# Altium integrated library Linear Technology Comparators.IntLib: 630 symbols (part 3 of 24)
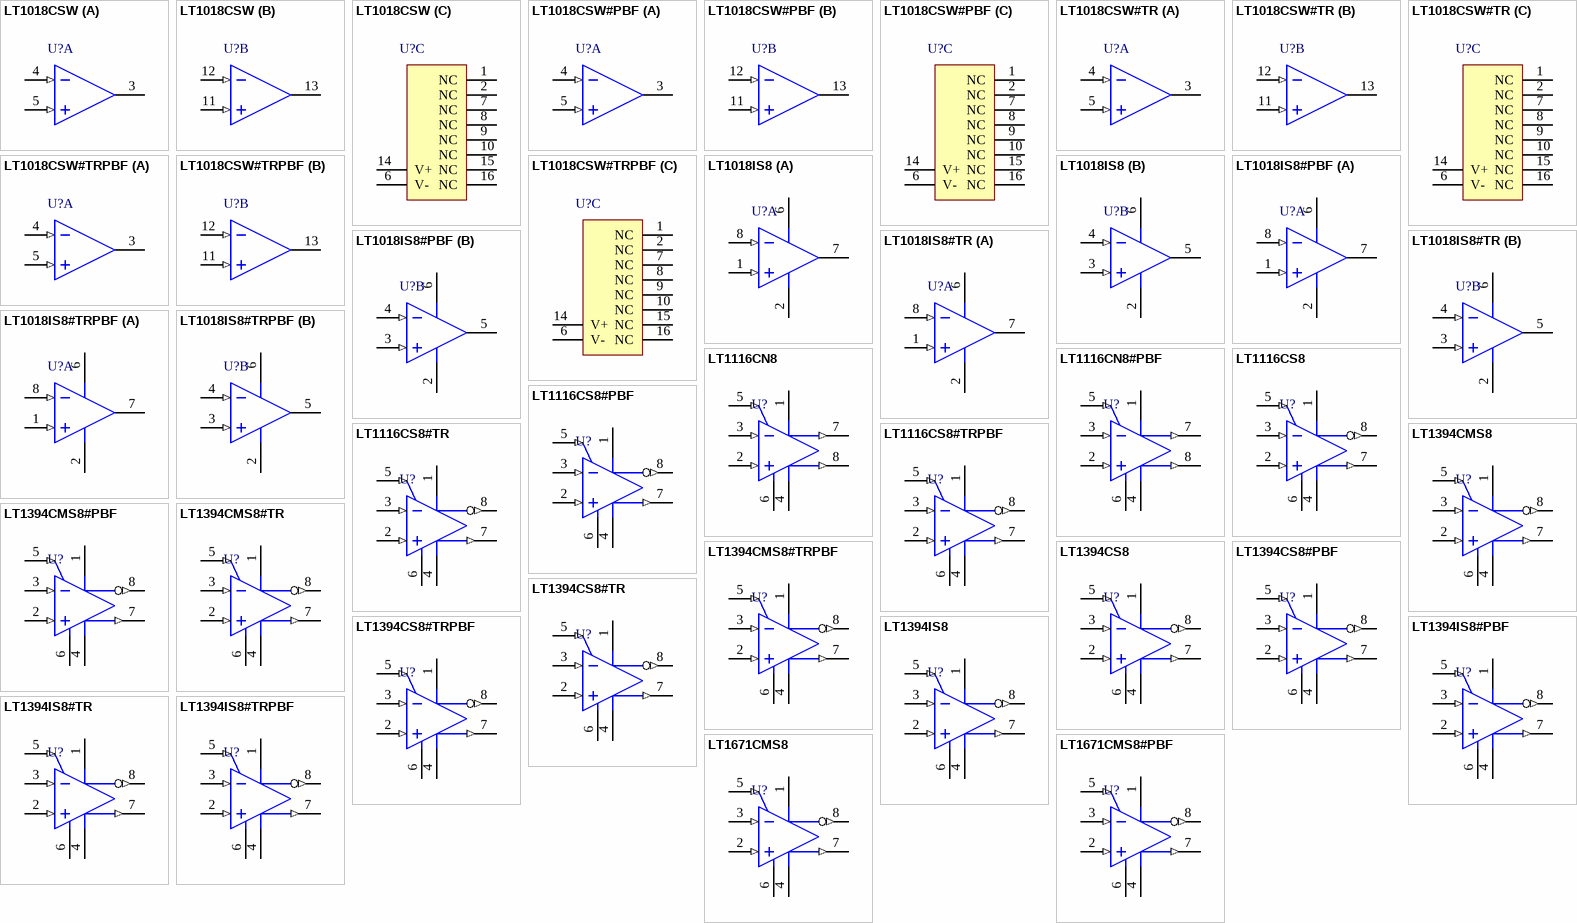
[diagram p26: symbols LT1018CSW to LT1671CMS8#PBF]

## LT1394CS8
designator U?
7 ns, Low Power, Single Supply, Ground-Sensing Comparator, 1 Channel, 4.5 to + / - 5 V, 0 to +70 degC, 8-pin SOP (S8); Generic Part Number: LT1394; Manufacturer: Linear Technology; PartNumber: LT1394CS8; Channels (#): 1; Prop Delay (us): 0.007; Supply Current (uA) Typical: 8500; Vos (mV) Guaranteed: 2.5; Vos (mV) Typical: 0.8; Vs Max (V): 10; Vs Min (V): 4.5; PackageReference: S8; PackageDescription: 8-Pin Plastic Small Outline (Narrow .150 Inch), Body 4.9 x 3.9 mm, Pitch 1.27 mm; Supplier 1: Digi-Key; Supplier Part Number 1: LT1394CS8-ND; Features: Comparator, Output Latch; RoHS: N; Supply Voltage Range: 4.5 to + / -5 V; Mounting Technology: Surface Mount; ComponentLink1Description: Manufacturer URL; ComponentLink1URL: http://www.linear.com/; ComponentLink2Description: Datasheet; ComponentLink2URL: http://cds.linear.com/docs/en/datasheet/1394f.pdf; ComponentLink3Description: Package Specification; ComponentLink3URL: http://cds.linear.com/docs/en/packaging/05081610_G_SO8.pdf
footprint LT-S8_N (SOP, 8-Leads, Body 4.9x3.9mm, Pitch 1.27mm, IPC Medium Density)
footprint LT-S8_L (SOP, 8-Leads, Body 4.9x3.9mm, Pitch 1.27mm, IPC High Density)
footprint LT-S8_M (SOP, 8-Leads, Body 4.9x3.9mm, Pitch 1.27mm, IPC Low Density)
pins: 1 V+ (power), 2 +IN (in), 3 -IN (in), 4 V- (power), 5 LATCHENABLE (in), 6 GND (power), 7 QOUT (out), 8 ~{Q}OUT (out)

## LT1394CS8#PBF
designator U?
7 ns, Low Power, Single Supply, Ground-Sensing Comparator, 1 Channel, 4.5 to + / - 5 V, 0 to +70 degC, 8-pin SOP (S8); Generic Part Number: LT1394; Manufacturer: Linear Technology; PartNumber: LT1394CS8#PBF; Channels (#): 1; Prop Delay (us): 0.007; Supply Current (uA) Typical: 8500; Vos (mV) Guaranteed: 2.5; Vos (mV) Typical: 0.8; Vs Max (V): 10; Vs Min (V): 4.5; PackageReference: S8; PackageDescription: 8-Pin Plastic Small Outline (Narrow .150 Inch), Body 4.9 x 3.9 mm, Pitch 1.27 mm; Supplier 1: Digi-Key; Supplier Part Number 1: LT1394CS8#PBF-ND; Supplier 2: Farnell; Supplier Part Number 2: 1663420; Supplier 3: Newark; Supplier Part Number 3: 57M3861; Features: Comparator, Output Latch; RoHS: Y; Supply Voltage Range: 4.5 to + / -5 V; Mounting Technology: Surface Mount; ComponentLink1Description: Manufacturer URL; ComponentLink1URL: http://www.linear.com/; ComponentLink2Description: Datasheet; ComponentLink2URL: http://cds.linear.com/docs/en/datasheet/1394f.pdf; ComponentLink3Description: Package Specification; ComponentLink3URL: http://cds.linear.com/docs/en/packaging/05081610_G_SO8.pdf
footprint LT-S8_N (SOP, 8-Leads, Body 4.9x3.9mm, Pitch 1.27mm, IPC Medium Density)
footprint LT-S8_L (SOP, 8-Leads, Body 4.9x3.9mm, Pitch 1.27mm, IPC High Density)
footprint LT-S8_M (SOP, 8-Leads, Body 4.9x3.9mm, Pitch 1.27mm, IPC Low Density)
pins: 1 V+ (power), 2 +IN (in), 3 -IN (in), 4 V- (power), 5 LATCHENABLE (in), 6 GND (power), 7 QOUT (out), 8 ~{Q}OUT (out)

## LT1394CS8#TR
designator U?
7 ns, Low Power, Single Supply, Ground-Sensing Comparator, 1 Channel, 4.5 to + / - 5 V, 0 to +70 degC, 8-pin SOP (S8), Tape and Reel; Generic Part Number: LT1394; Manufacturer: Linear Technology; PartNumber: LT1394CS8#TR; Channels (#): 1; Prop Delay (us): 0.007; Supply Current (uA) Typical: 8500; Vos (mV) Guaranteed: 2.5; Vos (mV) Typical: 0.8; Vs Max (V): 10; Vs Min (V): 4.5; PackageReference: S8; PackageDescription: 8-Pin Plastic Small Outline (Narrow .150 Inch), Body 4.9 x 3.9 mm, Pitch 1.27 mm; Supplier 1: Digi-Key; Supplier Part Number 1: LT1394CS8#TR-ND; Features: Comparator, Output Latch; RoHS: N; Supply Voltage Range: 4.5 to + / -5 V; Mounting Technology: Surface Mount; ComponentLink1Description: Manufacturer URL; ComponentLink1URL: http://www.linear.com/; ComponentLink2Description: Datasheet; ComponentLink2URL: http://cds.linear.com/docs/en/datasheet/1394f.pdf; ComponentLink3Description: Package Specification; ComponentLink3URL: http://cds.linear.com/docs/en/packaging/05081610_G_SO8.pdf
footprint LT-S8_N (SOP, 8-Leads, Body 4.9x3.9mm, Pitch 1.27mm, IPC Medium Density)
footprint LT-S8_L (SOP, 8-Leads, Body 4.9x3.9mm, Pitch 1.27mm, IPC High Density)
footprint LT-S8_M (SOP, 8-Leads, Body 4.9x3.9mm, Pitch 1.27mm, IPC Low Density)
pins: 1 V+ (power), 2 +IN (in), 3 -IN (in), 4 V- (power), 5 LATCHENABLE (in), 6 GND (power), 7 QOUT (out), 8 ~{Q}OUT (out)

## LT1394CS8#TRPBF
designator U?
7 ns, Low Power, Single Supply, Ground-Sensing Comparator, 1 Channel, 4.5 to + / - 5 V, 0 to +70 degC, 8-pin SOP (S8), Tape and Reel; Generic Part Number: LT1394; Manufacturer: Linear Technology; PartNumber: LT1394CS8#TRPBF; Channels (#): 1; Prop Delay (us): 0.007; Supply Current (uA) Typical: 8500; Vos (mV) Guaranteed: 2.5; Vos (mV) Typical: 0.8; Vs Max (V): 10; Vs Min (V): 4.5; PackageReference: S8; PackageDescription: 8-Pin Plastic Small Outline (Narrow .150 Inch), Body 4.9 x 3.9 mm, Pitch 1.27 mm; Supplier 1: Digi-Key; Supplier Part Number 1: LT1394CS8#TRPBF-ND; Features: Comparator, Output Latch; RoHS: Y; Supply Voltage Range: 4.5 to + / -5 V; Mounting Technology: Surface Mount; ComponentLink1Description: Manufacturer URL; ComponentLink1URL: http://www.linear.com/; ComponentLink2Description: Datasheet; ComponentLink2URL: http://cds.linear.com/docs/en/datasheet/1394f.pdf; ComponentLink3Description: Package Specification; ComponentLink3URL: http://cds.linear.com/docs/en/packaging/05081610_G_SO8.pdf
footprint LT-S8_N (SOP, 8-Leads, Body 4.9x3.9mm, Pitch 1.27mm, IPC Medium Density)
footprint LT-S8_L (SOP, 8-Leads, Body 4.9x3.9mm, Pitch 1.27mm, IPC High Density)
footprint LT-S8_M (SOP, 8-Leads, Body 4.9x3.9mm, Pitch 1.27mm, IPC Low Density)
pins: 1 V+ (power), 2 +IN (in), 3 -IN (in), 4 V- (power), 5 LATCHENABLE (in), 6 GND (power), 7 QOUT (out), 8 ~{Q}OUT (out)

## LT1394IS8
designator U?
7 ns, Low Power, Single Supply, Ground-Sensing Comparator, 1 Channel, 4.5 to + / -5 V, -40 to +85 degC, 8-pin SOP (S8); Generic Part Number: LT1394; Manufacturer: Linear Technology; PartNumber: LT1394IS8; Channels (#): 1; Prop Delay (us): 0.007; Supply Current (uA) Typical: 8500; Vos (mV) Guaranteed: 2.5; Vos (mV) Typical: 0.8; Vs Max (V): 10; Vs Min (V): 4.5; PackageReference: S8; PackageDescription: 8-Pin Plastic Small Outline (Narrow .150 Inch), Body 4.9 x 3.9 mm, Pitch 1.27 mm; Supplier 1: Digi-Key; Supplier Part Number 1: LT1394IS8-ND; Features: Comparator, Output Latch; RoHS: N; Supply Voltage Range: 4.5 to + / -5 V; Mounting Technology: Surface Mount; ComponentLink1Description: Manufacturer URL; ComponentLink1URL: http://www.linear.com/; ComponentLink2Description: Datasheet; ComponentLink2URL: http://cds.linear.com/docs/en/datasheet/1394f.pdf; ComponentLink3Description: Package Specification; ComponentLink3URL: http://cds.linear.com/docs/en/packaging/05081610_G_SO8.pdf
footprint LT-S8_N (SOP, 8-Leads, Body 4.9x3.9mm, Pitch 1.27mm, IPC Medium Density)
footprint LT-S8_L (SOP, 8-Leads, Body 4.9x3.9mm, Pitch 1.27mm, IPC High Density)
footprint LT-S8_M (SOP, 8-Leads, Body 4.9x3.9mm, Pitch 1.27mm, IPC Low Density)
pins: 1 V+ (power), 2 +IN (in), 3 -IN (in), 4 V- (power), 5 LATCHENABLE (in), 6 GND (power), 7 QOUT (out), 8 ~{Q}OUT (out)

## LT1394IS8#PBF
designator U?
7 ns, Low Power, Ground-Sensing Comparator, 1 Channel, 4.5 to + / -5 V, -40 to +85 degC, 8-pin SOP (S8); Generic Part Number: LT1394; Manufacturer: Linear Technology; PartNumber: LT1394IS8#PBF; Channels (#): 1; Prop Delay (us): 0.007; Supply Current (uA) Typical: 8500; Vos (mV) Guaranteed: 2.5; Vos (mV) Typical: 0.8; Vs Max (V): 10; Vs Min (V): 4.5; PackageReference: S8; PackageDescription: 8-Pin Plastic Small Outline (Narrow .150 Inch), Body 4.9 x 3.9 mm, Pitch 1.27 mm; Supplier 1: Digi-Key; Supplier Part Number 1: LT1394IS8#PBF-ND; Supplier 2: Farnell; Supplier Part Number 2: 1627528; Supplier 3: Newark; Supplier Part Number 3: 57M3865; Features: Comparator, Output Latch; RoHS: Y; Supply Voltage Range: 4.5 to + / -5 V; Mounting Technology: Surface Mount; ComponentLink1Description: Manufacturer URL; ComponentLink1URL: http://www.linear.com/; ComponentLink2Description: Datasheet; ComponentLink2URL: http://cds.linear.com/docs/en/datasheet/1394f.pdf; ComponentLink3Description: Package Specification; ComponentLink3URL: http://cds.linear.com/docs/en/packaging/05081610_G_SO8.pdf
footprint LT-S8_N (SOP, 8-Leads, Body 4.9x3.9mm, Pitch 1.27mm, IPC Medium Density)
footprint LT-S8_L (SOP, 8-Leads, Body 4.9x3.9mm, Pitch 1.27mm, IPC High Density)
footprint LT-S8_M (SOP, 8-Leads, Body 4.9x3.9mm, Pitch 1.27mm, IPC Low Density)
pins: 1 V+ (power), 2 +IN (in), 3 -IN (in), 4 V- (power), 5 LATCHENABLE (in), 6 GND (power), 7 QOUT (out), 8 ~{Q}OUT (out)

## LT1394IS8#TR
designator U?
7 ns, Low Power, Ground-Sensing Comparator, 1 Channel, 4.5 to + / -5 V, -40 to +85 degC, 8-pin SOP (S8), Tape and Reel; Generic Part Number: LT1394; Manufacturer: Linear Technology; PartNumber: LT1394IS8#TR; Channels (#): 1; Prop Delay (us): 0.007; Supply Current (uA) Typical: 8500; Vos (mV) Guaranteed: 2.5; Vos (mV) Typical: 0.8; Vs Max (V): 10; Vs Min (V): 4.5; PackageReference: S8; PackageDescription: 8-Pin Plastic Small Outline (Narrow .150 Inch), Body 4.9 x 3.9 mm, Pitch 1.27 mm; Supplier 1: Digi-Key; Supplier Part Number 1: LT1394IS8#TR-ND; Features: Comparator, Output Latch; RoHS: N; Supply Voltage Range: 4.5 to + / -5 V; Mounting Technology: Surface Mount; ComponentLink1Description: Manufacturer URL; ComponentLink1URL: http://www.linear.com/; ComponentLink2Description: Datasheet; ComponentLink2URL: http://cds.linear.com/docs/en/datasheet/1394f.pdf; ComponentLink3Description: Package Specification; ComponentLink3URL: http://cds.linear.com/docs/en/packaging/05081610_G_SO8.pdf
footprint LT-S8_N (SOP, 8-Leads, Body 4.9x3.9mm, Pitch 1.27mm, IPC Medium Density)
footprint LT-S8_L (SOP, 8-Leads, Body 4.9x3.9mm, Pitch 1.27mm, IPC High Density)
footprint LT-S8_M (SOP, 8-Leads, Body 4.9x3.9mm, Pitch 1.27mm, IPC Low Density)
pins: 1 V+ (power), 2 +IN (in), 3 -IN (in), 4 V- (power), 5 LATCHENABLE (in), 6 GND (power), 7 QOUT (out), 8 ~{Q}OUT (out)

## LT1394IS8#TRPBF
designator U?
7 ns, Low Power, Ground-Sensing Comparator, 1 Channel, 4.5 to + / -5 V, -40 to +85 degC, 8-pin SOP (S8), Tape and Reel; Generic Part Number: LT1394; Manufacturer: Linear Technology; PartNumber: LT1394IS8#TRPBF; Channels (#): 1; Prop Delay (us): 0.007; Supply Current (uA) Typical: 8500; Vos (mV) Guaranteed: 2.5; Vos (mV) Typical: 0.8; Vs Max (V): 10; Vs Min (V): 4.5; PackageReference: S8; PackageDescription: 8-Pin Plastic Small Outline (Narrow .150 Inch), Body 4.9 x 3.9 mm, Pitch 1.27 mm; Supplier 1: Digi-Key; Supplier Part Number 1: LT1394IS8#TRPBF-ND; Features: Comparator, Output Latch; RoHS: Y; Supply Voltage Range: 4.5 to + / -5 V; Mounting Technology: Surface Mount; ComponentLink1Description: Manufacturer URL; ComponentLink1URL: http://www.linear.com/; ComponentLink2Description: Datasheet; ComponentLink2URL: http://cds.linear.com/docs/en/datasheet/1394f.pdf; ComponentLink3Description: Package Specification; ComponentLink3URL: http://cds.linear.com/docs/en/packaging/05081610_G_SO8.pdf
footprint LT-S8_N (SOP, 8-Leads, Body 4.9x3.9mm, Pitch 1.27mm, IPC Medium Density)
footprint LT-S8_L (SOP, 8-Leads, Body 4.9x3.9mm, Pitch 1.27mm, IPC High Density)
footprint LT-S8_M (SOP, 8-Leads, Body 4.9x3.9mm, Pitch 1.27mm, IPC Low Density)
pins: 1 V+ (power), 2 +IN (in), 3 -IN (in), 4 V- (power), 5 LATCHENABLE (in), 6 GND (power), 7 QOUT (out), 8 ~{Q}OUT (out)

## LT1671CMS8
designator U?
60 ns, Low Power, Single Supply, Ground-Sensing Comparator, 1 Channel, 4.5 to + / - 5 V, 0 to +70 degC, 8-pin Plastic MSOP (MS8); Generic Part Number: LT1671; Manufacturer: Linear Technology; PartNumber: LT1671CMS8; Channels (#): 1; Prop Delay (us): 0.06; Supply Current (uA) Typical: 800; Vos (mV) Guaranteed: 2.5; Vos (mV) Typical: 0.8; Vs Max (V): 10; Vs Min (V): 4.5; PackageReference: MS8; PackageDescription: 8-Pin Plastic MSOP, Body 3 x 3 mm, Pitch 0.65 mm; Supplier 1: Digi-Key; Supplier Part Number 1: LT1671CMS8-ND; Features: Comparator, Output Latch; RoHS: N; Supply Voltage Range: 4.5 to + / -5 V; Mounting Technology: Surface Mount; ComponentLink1Description: Manufacturer URL; ComponentLink1URL: http://www.linear.com/; ComponentLink2Description: Datasheet; ComponentLink2URL: http://cds.linear.com/docs/en/datasheet/1671fs.pdf; ComponentLink3Description: Package Specification; ComponentLink3URL: http://cds.linear.com/docs/en/packaging/MSOP_8_05-08-1660.pdf
footprint LT-MS8_N (SOP, 8-Leads, Body 3x3mm, Pitch 0.65mm, IPC Medium Density)
footprint LT-MS8_L (SOP, 8-Leads, Body 3x3mm, Pitch 0.65mm, IPC High Density)
footprint LT-MS8_M (SOP, 8-Leads, Body 3x3mm, Pitch 0.65mm, IPC Low Density)
pins: 1 V+ (power), 2 +IN (in), 3 -IN (in), 4 V- (power), 5 LATCHENABLE (in), 6 GND (power), 7 QOUT (out), 8 ~{Q}OUT (out)

## LT1671CMS8#PBF
designator U?
60 ns, Low Power, Single Supply, Ground-Sensing Comparator, 1 Channel, 4.5 to + / - 5 V, 0 to +70 degC, 8-pin Plastic MSOP (MS8); Generic Part Number: LT1671; Manufacturer: Linear Technology; PartNumber: LT1671CMS8#PBF; Channels (#): 1; Prop Delay (us): 0.06; Supply Current (uA) Typical: 800; Vos (mV) Guaranteed: 2.5; Vos (mV) Typical: 0.8; Vs Max (V): 10; Vs Min (V): 4.5; PackageReference: MS8; PackageDescription: 8-Pin Plastic MSOP, Body 3 x 3 mm, Pitch 0.65 mm; Supplier 1: Digi-Key; Supplier Part Number 1: LT1671CMS8#PBF-ND; Supplier 2: Newark; Supplier Part Number 2: 57M5603; Features: Comparator, Output Latch; RoHS: Y; Supply Voltage Range: 4.5 to + / -5 V; Mounting Technology: Surface Mount; ComponentLink1Description: Manufacturer URL; ComponentLink1URL: http://www.linear.com/; ComponentLink2Description: Datasheet; ComponentLink2URL: http://cds.linear.com/docs/en/datasheet/1671fs.pdf; ComponentLink3Description: Package Specification; ComponentLink3URL: http://cds.linear.com/docs/en/packaging/MSOP_8_05-08-1660.pdf
footprint LT-MS8_N (SOP, 8-Leads, Body 3x3mm, Pitch 0.65mm, IPC Medium Density)
footprint LT-MS8_L (SOP, 8-Leads, Body 3x3mm, Pitch 0.65mm, IPC High Density)
footprint LT-MS8_M (SOP, 8-Leads, Body 3x3mm, Pitch 0.65mm, IPC Low Density)
pins: 1 V+ (power), 2 +IN (in), 3 -IN (in), 4 V- (power), 5 LATCHENABLE (in), 6 GND (power), 7 QOUT (out), 8 ~{Q}OUT (out)

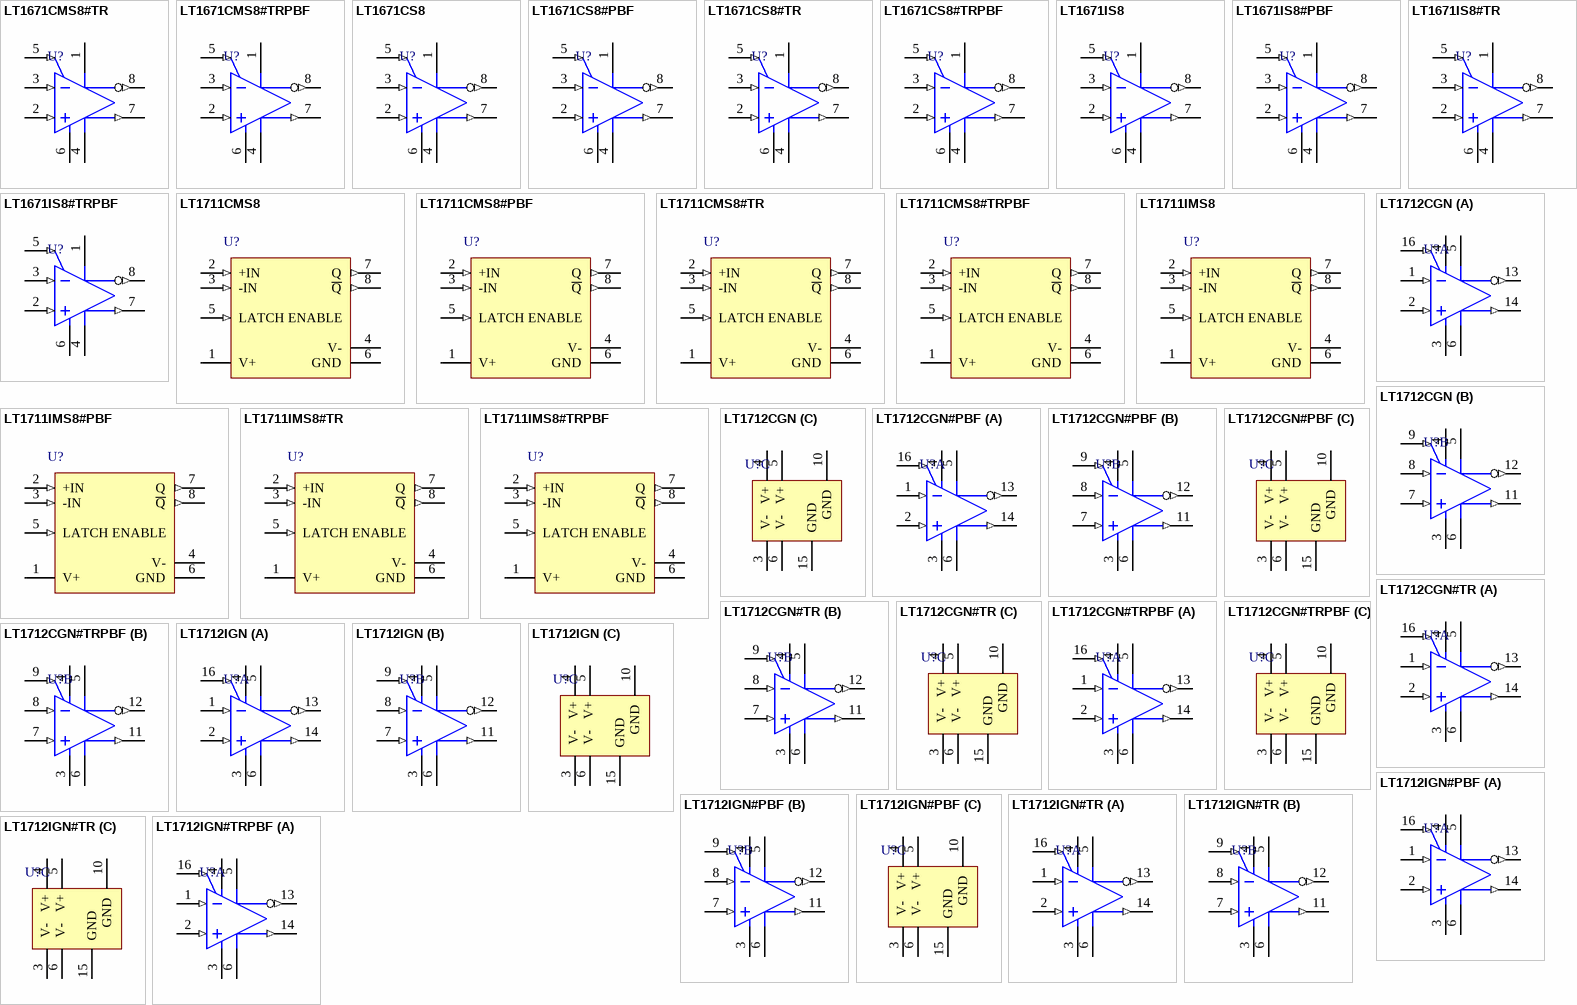
[diagram p3: symbols LT1671CMS8#TR to LT1712IGN#TRPBF]

## LT1671CMS8#TR
designator U?
60 ns, Low Power, Single Supply, Ground-Sensing Comparator, 1 Channel, 4.5 to + / - 5 V, 0 to +70 degC, 8-pin Plastic MSOP (MS8), Tape and Reel; Generic Part Number: LT1671; Manufacturer: Linear Technology; PartNumber: LT1671CMS8#TR; Channels (#): 1; Prop Delay (us): 0.06; Supply Current (uA) Typical: 800; Vos (mV) Guaranteed: 2.5; Vos (mV) Typical: 0.8; Vs Max (V): 10; Vs Min (V): 4.5; PackageReference: MS8; PackageDescription: 8-Pin Plastic MSOP, Body 3 x 3 mm, Pitch 0.65 mm; Supplier 1: Digi-Key; Supplier Part Number 1: LT1671CMS8#TR-ND; Features: Comparator, Output Latch; RoHS: N; Supply Voltage Range: 4.5 to + / -5 V; Mounting Technology: Surface Mount; ComponentLink1Description: Manufacturer URL; ComponentLink1URL: http://www.linear.com/; ComponentLink2Description: Datasheet; ComponentLink2URL: http://cds.linear.com/docs/en/datasheet/1671fs.pdf; ComponentLink3Description: Package Specification; ComponentLink3URL: http://cds.linear.com/docs/en/packaging/MSOP_8_05-08-1660.pdf
footprint LT-MS8_N (SOP, 8-Leads, Body 3x3mm, Pitch 0.65mm, IPC Medium Density)
footprint LT-MS8_L (SOP, 8-Leads, Body 3x3mm, Pitch 0.65mm, IPC High Density)
footprint LT-MS8_M (SOP, 8-Leads, Body 3x3mm, Pitch 0.65mm, IPC Low Density)
pins: 1 V+ (power), 2 +IN (in), 3 -IN (in), 4 V- (power), 5 LATCHENABLE (in), 6 GND (power), 7 QOUT (out), 8 ~{Q}OUT (out)

## LT1671CMS8#TRPBF
designator U?
60 ns, Low Power, Single Supply, Ground-Sensing Comparator, 1 Channel, 4.5 to + / - 5 V, 0 to +70 degC, 8-pin Plastic MSOP (MS8), Tape and Reel; Generic Part Number: LT1671; Manufacturer: Linear Technology; PartNumber: LT1671CMS8#TRPBF; Channels (#): 1; Prop Delay (us): 0.06; Supply Current (uA) Typical: 800; Vos (mV) Guaranteed: 2.5; Vos (mV) Typical: 0.8; Vs Max (V): 10; Vs Min (V): 4.5; PackageReference: MS8; PackageDescription: 8-Pin Plastic MSOP, Body 3 x 3 mm, Pitch 0.65 mm; Supplier 1: Digi-Key; Supplier Part Number 1: LT1671CMS8#TRPBF-ND; Features: Comparator, Output Latch; RoHS: Y; Supply Voltage Range: 4.5 to + / -5 V; Mounting Technology: Surface Mount; ComponentLink1Description: Manufacturer URL; ComponentLink1URL: http://www.linear.com/; ComponentLink2Description: Datasheet; ComponentLink2URL: http://cds.linear.com/docs/en/datasheet/1671fs.pdf; ComponentLink3Description: Package Specification; ComponentLink3URL: http://cds.linear.com/docs/en/packaging/MSOP_8_05-08-1660.pdf
footprint LT-MS8_N (SOP, 8-Leads, Body 3x3mm, Pitch 0.65mm, IPC Medium Density)
footprint LT-MS8_L (SOP, 8-Leads, Body 3x3mm, Pitch 0.65mm, IPC High Density)
footprint LT-MS8_M (SOP, 8-Leads, Body 3x3mm, Pitch 0.65mm, IPC Low Density)
pins: 1 V+ (power), 2 +IN (in), 3 -IN (in), 4 V- (power), 5 LATCHENABLE (in), 6 GND (power), 7 QOUT (out), 8 ~{Q}OUT (out)

## LT1671CS8
designator U?
60 ns, Low Power, Single Supply, Ground-Sensing Comparator, 1 Channel, 4.5 to + / - 5 V, 0 to +70 degC, 8-pin SOP (S8); Generic Part Number: LT1671; Manufacturer: Linear Technology; PartNumber: LT1671CS8; Channels (#): 1; Prop Delay (us): 0.06; Supply Current (uA) Typical: 800; Vos (mV) Guaranteed: 2.5; Vos (mV) Typical: 0.8; Vs Max (V): 10; Vs Min (V): 4.5; PackageReference: S8; PackageDescription: 8-Pin Plastic Small Outline (Narrow .150 Inch), Body 4.9 x 3.9 mm, Pitch 1.27 mm; Supplier 1: Digi-Key; Supplier Part Number 1: LT1671CS8-ND; Features: Comparator, Output Latch; RoHS: N; Supply Voltage Range: 4.5 to + / -5 V; Mounting Technology: Surface Mount; ComponentLink1Description: Manufacturer URL; ComponentLink1URL: http://www.linear.com/; ComponentLink2Description: Datasheet; ComponentLink2URL: http://cds.linear.com/docs/en/datasheet/1671fs.pdf; ComponentLink3Description: Package Specification; ComponentLink3URL: http://cds.linear.com/docs/en/packaging/05081610_G_SO8.pdf
footprint LT-S8_N (SOP, 8-Leads, Body 4.9x3.9mm, Pitch 1.27mm, IPC Medium Density)
footprint LT-S8_L (SOP, 8-Leads, Body 4.9x3.9mm, Pitch 1.27mm, IPC High Density)
footprint LT-S8_M (SOP, 8-Leads, Body 4.9x3.9mm, Pitch 1.27mm, IPC Low Density)
pins: 1 V+ (power), 2 +IN (in), 3 -IN (in), 4 V- (power), 5 LATCHENABLE (in), 6 GND (power), 7 QOUT (out), 8 ~{Q}OUT (out)

## LT1671CS8#PBF
designator U?
60 ns, Low Power, Single Supply, Ground-Sensing Comparator, 1 Channel, 4.5 to + / - 5 V, 0 to +70 degC, 8-pin SOP (S8); Generic Part Number: LT1671; Manufacturer: Linear Technology; PartNumber: LT1671CS8#PBF; Channels (#): 1; Prop Delay (us): 0.06; Supply Current (uA) Typical: 800; Vos (mV) Guaranteed: 2.5; Vos (mV) Typical: 0.8; Vs Max (V): 10; Vs Min (V): 4.5; PackageReference: S8; PackageDescription: 8-Pin Plastic Small Outline (Narrow .150 Inch), Body 4.9 x 3.9 mm, Pitch 1.27 mm; Supplier 1: Digi-Key; Supplier Part Number 1: LT1671CS8#PBF-ND; Supplier 2: Farnell; Supplier Part Number 2: 1663466; Supplier 3: Newark; Supplier Part Number 3: 57M5607; Features: Comparator, Output Latch; RoHS: Y; Supply Voltage Range: 4.5 to + / -5 V; Mounting Technology: Surface Mount; ComponentLink1Description: Manufacturer URL; ComponentLink1URL: http://www.linear.com/; ComponentLink2Description: Datasheet; ComponentLink2URL: http://cds.linear.com/docs/en/datasheet/1671fs.pdf; ComponentLink3Description: Package Specification; ComponentLink3URL: http://cds.linear.com/docs/en/packaging/05081610_G_SO8.pdf
footprint LT-S8_N (SOP, 8-Leads, Body 4.9x3.9mm, Pitch 1.27mm, IPC Medium Density)
footprint LT-S8_L (SOP, 8-Leads, Body 4.9x3.9mm, Pitch 1.27mm, IPC High Density)
footprint LT-S8_M (SOP, 8-Leads, Body 4.9x3.9mm, Pitch 1.27mm, IPC Low Density)
pins: 1 V+ (power), 2 +IN (in), 3 -IN (in), 4 V- (power), 5 LATCHENABLE (in), 6 GND (power), 7 QOUT (out), 8 ~{Q}OUT (out)

## LT1671CS8#TR
designator U?
60 ns, Low Power, Single Supply, Ground-Sensing Comparator, 1 Channel, 4.5 to + / - 5 V, 0 to +70 degC, 8-pin SOP (S8), Tape and Reel; Generic Part Number: LT1671; Manufacturer: Linear Technology; PartNumber: LT1671CS8#TR; Channels (#): 1; Prop Delay (us): 0.06; Supply Current (uA) Typical: 800; Vos (mV) Guaranteed: 2.5; Vos (mV) Typical: 0.8; Vs Max (V): 10; Vs Min (V): 4.5; PackageReference: S8; PackageDescription: 8-Pin Plastic Small Outline (Narrow .150 Inch), Body 4.9 x 3.9 mm, Pitch 1.27 mm; Supplier 1: Digi-Key; Supplier Part Number 1: LT1671CS8#TR-ND; Features: Comparator, Output Latch; RoHS: N; Supply Voltage Range: 4.5 to + / -5 V; Mounting Technology: Surface Mount; ComponentLink1Description: Manufacturer URL; ComponentLink1URL: http://www.linear.com/; ComponentLink2Description: Datasheet; ComponentLink2URL: http://cds.linear.com/docs/en/datasheet/1671fs.pdf; ComponentLink3Description: Package Specification; ComponentLink3URL: http://cds.linear.com/docs/en/packaging/05081610_G_SO8.pdf
footprint LT-S8_N (SOP, 8-Leads, Body 4.9x3.9mm, Pitch 1.27mm, IPC Medium Density)
footprint LT-S8_L (SOP, 8-Leads, Body 4.9x3.9mm, Pitch 1.27mm, IPC High Density)
footprint LT-S8_M (SOP, 8-Leads, Body 4.9x3.9mm, Pitch 1.27mm, IPC Low Density)
pins: 1 V+ (power), 2 +IN (in), 3 -IN (in), 4 V- (power), 5 LATCHENABLE (in), 6 GND (power), 7 QOUT (out), 8 ~{Q}OUT (out)

## LT1671CS8#TRPBF
designator U?
60 ns, Low Power, Single Supply, Ground-Sensing Comparator, 1 Channel, 4.5 to + / - 5 V, 0 to +70 degC, 8-pin SOP (S8), Tape and Reel; Generic Part Number: LT1671; Manufacturer: Linear Technology; PartNumber: LT1671CS8#TRPBF; Channels (#): 1; Prop Delay (us): 0.06; Supply Current (uA) Typical: 800; Vos (mV) Guaranteed: 2.5; Vos (mV) Typical: 0.8; Vs Max (V): 10; Vs Min (V): 4.5; PackageReference: S8; PackageDescription: 8-Pin Plastic Small Outline (Narrow .150 Inch), Body 4.9 x 3.9 mm, Pitch 1.27 mm; Supplier 1: Digi-Key; Supplier Part Number 1: LT1671CS8#TRPBF-ND; Features: Comparator, Output Latch; RoHS: Y; Supply Voltage Range: 4.5 to + / -5 V; Mounting Technology: Surface Mount; ComponentLink1Description: Manufacturer URL; ComponentLink1URL: http://www.linear.com/; ComponentLink2Description: Datasheet; ComponentLink2URL: http://cds.linear.com/docs/en/datasheet/1671fs.pdf; ComponentLink3Description: Package Specification; ComponentLink3URL: http://cds.linear.com/docs/en/packaging/05081610_G_SO8.pdf
footprint LT-S8_N (SOP, 8-Leads, Body 4.9x3.9mm, Pitch 1.27mm, IPC Medium Density)
footprint LT-S8_L (SOP, 8-Leads, Body 4.9x3.9mm, Pitch 1.27mm, IPC High Density)
footprint LT-S8_M (SOP, 8-Leads, Body 4.9x3.9mm, Pitch 1.27mm, IPC Low Density)
pins: 1 V+ (power), 2 +IN (in), 3 -IN (in), 4 V- (power), 5 LATCHENABLE (in), 6 GND (power), 7 QOUT (out), 8 ~{Q}OUT (out)

## LT1671IS8
designator U?
60 ns, Low Power, Single Supply, Ground-Sensing Comparator, 1 Channel, 4.5 to + / - 5 V, -40 to +85 degC, 8-pin SOP (S8); Generic Part Number: LT1671; Manufacturer: Linear Technology; PartNumber: LT1671IS8; Channels (#): 1; Prop Delay (us): 0.06; Supply Current (uA) Typical: 800; Vos (mV) Guaranteed: 2.5; Vos (mV) Typical: 0.8; Vs Max (V): 10; Vs Min (V): 4.5; PackageReference: S8; PackageDescription: 8-Pin Plastic Small Outline (Narrow .150 Inch), Body 4.9 x 3.9 mm, Pitch 1.27 mm; Supplier 1: Digi-Key; Supplier Part Number 1: LT1671IS8-ND; Features: Comparator, Output Latch; RoHS: N; Supply Voltage Range: 4.5 to + / -5 V; Mounting Technology: Surface Mount; ComponentLink1Description: Manufacturer URL; ComponentLink1URL: http://www.linear.com/; ComponentLink2Description: Datasheet; ComponentLink2URL: http://cds.linear.com/docs/en/datasheet/1671fs.pdf; ComponentLink3Description: Package Specification; ComponentLink3URL: http://cds.linear.com/docs/en/packaging/05081610_G_SO8.pdf
footprint LT-S8_N (SOP, 8-Leads, Body 4.9x3.9mm, Pitch 1.27mm, IPC Medium Density)
footprint LT-S8_L (SOP, 8-Leads, Body 4.9x3.9mm, Pitch 1.27mm, IPC High Density)
footprint LT-S8_M (SOP, 8-Leads, Body 4.9x3.9mm, Pitch 1.27mm, IPC Low Density)
pins: 1 V+ (power), 2 +IN (in), 3 -IN (in), 4 V- (power), 5 LATCHENABLE (in), 6 GND (power), 7 QOUT (out), 8 ~{Q}OUT (out)

## LT1671IS8#PBF
designator U?
60 ns, Low Power, Single Supply, Ground-Sensing Comparator, 1 Channel, 4.5 to + / - 5 V, -40 to +85 degC, 8-pin SOP (S8); Generic Part Number: LT1671; Manufacturer: Linear Technology; PartNumber: LT1671IS8#PBF; Channels (#): 1; Prop Delay (us): 0.06; Supply Current (uA) Typical: 800; Vos (mV) Guaranteed: 2.5; Vos (mV) Typical: 0.8; Vs Max (V): 10; Vs Min (V): 4.5; PackageReference: S8; PackageDescription: 8-Pin Plastic Small Outline (Narrow .150 Inch), Body 4.9 x 3.9 mm, Pitch 1.27 mm; Supplier 1: Digi-Key; Supplier Part Number 1: LT1671IS8#PBF-ND; Supplier 2: Newark; Supplier Part Number 2: 57M5611; Features: Comparator, Output Latch; RoHS: Y; Supply Voltage Range: 4.5 to + / -5 V; Mounting Technology: Surface Mount; ComponentLink1Description: Manufacturer URL; ComponentLink1URL: http://www.linear.com/; ComponentLink2Description: Datasheet; ComponentLink2URL: http://cds.linear.com/docs/en/datasheet/1671fs.pdf; ComponentLink3Description: Package Specification; ComponentLink3URL: http://cds.linear.com/docs/en/packaging/05081610_G_SO8.pdf
footprint LT-S8_N (SOP, 8-Leads, Body 4.9x3.9mm, Pitch 1.27mm, IPC Medium Density)
footprint LT-S8_L (SOP, 8-Leads, Body 4.9x3.9mm, Pitch 1.27mm, IPC High Density)
footprint LT-S8_M (SOP, 8-Leads, Body 4.9x3.9mm, Pitch 1.27mm, IPC Low Density)
pins: 1 V+ (power), 2 +IN (in), 3 -IN (in), 4 V- (power), 5 LATCHENABLE (in), 6 GND (power), 7 QOUT (out), 8 ~{Q}OUT (out)

## LT1671IS8#TR
designator U?
60 ns, Low Power, Single Supply, Ground-Sensing Comparator, 1 Channel, 4.5 to + / - 5 V, -40 to +85 degC, 8-pin SOP (S8), Tape and Reel; Generic Part Number: LT1671; Manufacturer: Linear Technology; PartNumber: LT1671IS8#TR; Channels (#): 1; Prop Delay (us): 0.06; Supply Current (uA) Typical: 800; Vos (mV) Guaranteed: 2.5; Vos (mV) Typical: 0.8; Vs Max (V): 10; Vs Min (V): 4.5; PackageReference: S8; PackageDescription: 8-Pin Plastic Small Outline (Narrow .150 Inch), Body 4.9 x 3.9 mm, Pitch 1.27 mm; Supplier 1: Digi-Key; Supplier Part Number 1: LT1671IS8#TR-ND; Features: Comparator, Output Latch; RoHS: N; Supply Voltage Range: 4.5 to + / -5 V; Mounting Technology: Surface Mount; ComponentLink1Description: Manufacturer URL; ComponentLink1URL: http://www.linear.com/; ComponentLink2Description: Datasheet; ComponentLink2URL: http://cds.linear.com/docs/en/datasheet/1671fs.pdf; ComponentLink3Description: Package Specification; ComponentLink3URL: http://cds.linear.com/docs/en/packaging/05081610_G_SO8.pdf
footprint LT-S8_N (SOP, 8-Leads, Body 4.9x3.9mm, Pitch 1.27mm, IPC Medium Density)
footprint LT-S8_L (SOP, 8-Leads, Body 4.9x3.9mm, Pitch 1.27mm, IPC High Density)
footprint LT-S8_M (SOP, 8-Leads, Body 4.9x3.9mm, Pitch 1.27mm, IPC Low Density)
pins: 1 V+ (power), 2 +IN (in), 3 -IN (in), 4 V- (power), 5 LATCHENABLE (in), 6 GND (power), 7 QOUT (out), 8 ~{Q}OUT (out)

## LT1671IS8#TRPBF
designator U?
60 ns, Low Power, Single Supply, Ground-Sensing Comparator, 1 Channel, 4.5 to + / - 5 V, -40 to +85 degC, 8-pin SOP (S8), Tape and Reel; Generic Part Number: LT1671; Manufacturer: Linear Technology; PartNumber: LT1671IS8#TRPBF; Channels (#): 1; Prop Delay (us): 0.06; Supply Current (uA) Typical: 800; Vos (mV) Guaranteed: 2.5; Vos (mV) Typical: 0.8; Vs Max (V): 10; Vs Min (V): 4.5; PackageReference: S8; PackageDescription: 8-Pin Plastic Small Outline (Narrow .150 Inch), Body 4.9 x 3.9 mm, Pitch 1.27 mm; Supplier 1: Digi-Key; Supplier Part Number 1: LT1671IS8#TRPBF-ND; Features: Comparator, Output Latch; RoHS: Y; Supply Voltage Range: 4.5 to + / -5 V; Mounting Technology: Surface Mount; ComponentLink1Description: Manufacturer URL; ComponentLink1URL: http://www.linear.com/; ComponentLink2Description: Datasheet; ComponentLink2URL: http://cds.linear.com/docs/en/datasheet/1671fs.pdf; ComponentLink3Description: Package Specification; ComponentLink3URL: http://cds.linear.com/docs/en/packaging/05081610_G_SO8.pdf
footprint LT-S8_N (SOP, 8-Leads, Body 4.9x3.9mm, Pitch 1.27mm, IPC Medium Density)
footprint LT-S8_L (SOP, 8-Leads, Body 4.9x3.9mm, Pitch 1.27mm, IPC High Density)
footprint LT-S8_M (SOP, 8-Leads, Body 4.9x3.9mm, Pitch 1.27mm, IPC Low Density)
pins: 1 V+ (power), 2 +IN (in), 3 -IN (in), 4 V- (power), 5 LATCHENABLE (in), 6 GND (power), 7 QOUT (out), 8 ~{Q}OUT (out)

## LT1711CMS8
designator U?
4.5 ns, 3 V / 5 V / + / - 5 V, Rail-to-Rail Comparator, 1 Channel, 2.4 to 12 V or + / - 2.4 to + / - 6 V, 0 to +70 degC, 8-pin Plastic MSOP (MS8); Generic Part Number: LT1711; Manufacturer: Linear Technology; PartNumber: LT1711CMS8; Channels (#): 1; Prop Delay (us): 0.0045; Supply Current (uA) Typical: 10000; Vos (mV) Guaranteed: 5; Vos (mV) Typical: 0.5; Vs Max (V): 12; Vs Min (V): 2.4; PackageReference: MS8; PackageDescription: 8-Pin Plastic MSOP, Body 3 x 3 mm, Pitch 0.65 mm; Supplier 1: Digi-Key; Supplier Part Number 1: LT1711CMS8-ND; Supplier 2: Newark; Supplier Part Number 2: 57M5750; Features: Comparator, Rail-to-Rail In/Out, Output Latch; RoHS: N; Supply Voltage Range: 2.4 to 12 V or + / -2.4 to + / -6 V; Mounting Technology: Surface Mount; ComponentLink1Description: Manufacturer URL; ComponentLink1URL: http://www.linear.com/; ComponentLink2Description: Datasheet; ComponentLink2URL: http://cds.linear.com/docs/en/datasheet/171112f.pdf; ComponentLink3Description: Package Specification; ComponentLink3URL: http://cds.linear.com/docs/en/packaging/MSOP_8_05-08-1660.pdf
footprint LT-MS8_N (SOP, 8-Leads, Body 3x3mm, Pitch 0.65mm, IPC Medium Density)
footprint LT-MS8_L (SOP, 8-Leads, Body 3x3mm, Pitch 0.65mm, IPC High Density)
footprint LT-MS8_M (SOP, 8-Leads, Body 3x3mm, Pitch 0.65mm, IPC Low Density)
pins: 1 V+ (power) "Positive Supply Voltage, Usually 5V.", 2 +IN (in) "Noninverting Input.", 3 -IN (in) "Inverting Input.", 4 V- (power) "Negative Supply Voltage, Usually 0V or - 5V.", 5 LATCH ENABLE (in) "Latch Enable Input. With a logic high, the output is latched.", 6 GND (power) "Ground Supply Voltage, Usually 0V.", 7 Q (out) "Noninverting Output.", 8 ~{Q} (out) "Inverting Output."

## LT1711CMS8#PBF
designator U?
4.5ns, 3 V / 5 V / + / - 5 V, Rail-to-Rail Comparator, 1 Channel, 2.4 to 12 V or + / -2.4 to + / -6 V, 0 to +70 degC, 8-pin Plastic MSOP (MS8); Generic Part Number: LT1711; Manufacturer: Linear Technology; PartNumber: LT1711CMS8#PBF; Channels (#): 1; Prop Delay (us): 0.0045; Supply Current (uA) Typical: 10000; Vos (mV) Guaranteed: 5; Vos (mV) Typical: 0.5; Vs Max (V): 12; Vs Min (V): 2.4; PackageReference: MS8; PackageDescription: 8-Pin Plastic MSOP, Body 3 x 3 mm, Pitch 0.65 mm; Supplier 1: Digi-Key; Supplier Part Number 1: LT1711CMS8#PBF-ND; Supplier 2: Farnell; Supplier Part Number 2: 1663469; Supplier 3: Newark; Supplier Part Number 3: 57M5751; Features: Comparator, Rail-to-Rail In/Out, Output Latch; RoHS: Y; Supply Voltage Range: 2.4 to 12 V or + / -2.4 to + / -6 V; Mounting Technology: Surface Mount; ComponentLink1Description: Manufacturer URL; ComponentLink1URL: http://www.linear.com/; ComponentLink2Description: Datasheet; ComponentLink2URL: http://cds.linear.com/docs/en/datasheet/171112f.pdf; ComponentLink3Description: Package Specification; ComponentLink3URL: http://cds.linear.com/docs/en/packaging/MSOP_8_05-08-1660.pdf
footprint LT-MS8_N (SOP, 8-Leads, Body 3x3mm, Pitch 0.65mm, IPC Medium Density)
footprint LT-MS8_L (SOP, 8-Leads, Body 3x3mm, Pitch 0.65mm, IPC High Density)
footprint LT-MS8_M (SOP, 8-Leads, Body 3x3mm, Pitch 0.65mm, IPC Low Density)
pins: 1 V+ (power) "Positive Supply Voltage, Usually 5V.", 2 +IN (in) "Noninverting Input.", 3 -IN (in) "Inverting Input.", 4 V- (power) "Negative Supply Voltage, Usually 0V or - 5V.", 5 LATCH ENABLE (in) "Latch Enable Input. With a logic high, the output is latched.", 6 GND (power) "Ground Supply Voltage, Usually 0V.", 7 Q (out) "Noninverting Output.", 8 ~{Q} (out) "Inverting Output."

## LT1711CMS8#TR
designator U?
4.5ns, 3 V / 5 V / + / - 5 V, Rail-to-Rail Comparator, 1 Channel, 2.4 to 12 V or + / -2.4 to + / -6 V, 0 to +70 degC, 8-pin Plastic MSOP (MS8), Tape and Reel; Generic Part Number: LT1711; Manufacturer: Linear Technology; PartNumber: LT1711CMS8#TR; Channels (#): 1; Prop Delay (us): 0.0045; Supply Current (uA) Typical: 10000; Vos (mV) Guaranteed: 5; Vos (mV) Typical: 0.5; Vs Max (V): 12; Vs Min (V): 2.4; PackageReference: MS8; PackageDescription: 8-Pin Plastic MSOP, Body 3 x 3 mm, Pitch 0.65 mm; Supplier 1: Digi-Key; Supplier Part Number 1: LT1711CMS8TR-ND; Features: Comparator, Rail-to-Rail In/Out, Output Latch; RoHS: N; Supply Voltage Range: 2.4 to 12 V or + / -2.4 to + / -6 V; Mounting Technology: Surface Mount; ComponentLink1Description: Manufacturer URL; ComponentLink1URL: http://www.linear.com/; ComponentLink2Description: Datasheet; ComponentLink2URL: http://cds.linear.com/docs/en/datasheet/171112f.pdf; ComponentLink3Description: Package Specification; ComponentLink3URL: http://cds.linear.com/docs/en/packaging/MSOP_8_05-08-1660.pdf
footprint LT-MS8_N (SOP, 8-Leads, Body 3x3mm, Pitch 0.65mm, IPC Medium Density)
footprint LT-MS8_L (SOP, 8-Leads, Body 3x3mm, Pitch 0.65mm, IPC High Density)
footprint LT-MS8_M (SOP, 8-Leads, Body 3x3mm, Pitch 0.65mm, IPC Low Density)
pins: 1 V+ (power) "Positive Supply Voltage, Usually 5V.", 2 +IN (in) "Noninverting Input.", 3 -IN (in) "Inverting Input.", 4 V- (power) "Negative Supply Voltage, Usually 0V or - 5V.", 5 LATCH ENABLE (in) "Latch Enable Input. With a logic high, the output is latched.", 6 GND (power) "Ground Supply Voltage, Usually 0V.", 7 Q (out) "Noninverting Output.", 8 ~{Q} (out) "Inverting Output."

## LT1711CMS8#TRPBF
designator U?
4.5ns, 3 V / 5 V / + / - 5 V, Rail-to-Rail Comparator, 1 Channel, 2.4 to 12 V or + / -2.4 to + / -6 V, 0 to +70 degC, 8-pin Plastic MSOP (MS8), Tape and Reel; Generic Part Number: LT1711; Manufacturer: Linear Technology; PartNumber: LT1711CMS8#TRPBF; Channels (#): 1; Prop Delay (us): 0.0045; Supply Current (uA) Typical: 10000; Vos (mV) Guaranteed: 5; Vos (mV) Typical: 0.5; Vs Max (V): 12; Vs Min (V): 2.4; PackageReference: MS8; PackageDescription: 8-Pin Plastic MSOP, Body 3 x 3 mm, Pitch 0.65 mm; Supplier 1: Digi-Key; Supplier Part Number 1: LT1711CMS8#TRPBF-ND; Supplier 2: Newark; Supplier Part Number 2: 57M5753; Features: Comparator, Rail-to-Rail In/Out, Output Latch; RoHS: Y; Supply Voltage Range: 2.4 to 12 V or + / -2.4 to + / -6 V; Mounting Technology: Surface Mount; ComponentLink1Description: Manufacturer URL; ComponentLink1URL: http://www.linear.com/; ComponentLink2Description: Datasheet; ComponentLink2URL: http://cds.linear.com/docs/en/datasheet/171112f.pdf; ComponentLink3Description: Package Specification; ComponentLink3URL: http://cds.linear.com/docs/en/packaging/MSOP_8_05-08-1660.pdf
footprint LT-MS8_N (SOP, 8-Leads, Body 3x3mm, Pitch 0.65mm, IPC Medium Density)
footprint LT-MS8_L (SOP, 8-Leads, Body 3x3mm, Pitch 0.65mm, IPC High Density)
footprint LT-MS8_M (SOP, 8-Leads, Body 3x3mm, Pitch 0.65mm, IPC Low Density)
pins: 1 V+ (power) "Positive Supply Voltage, Usually 5V.", 2 +IN (in) "Noninverting Input.", 3 -IN (in) "Inverting Input.", 4 V- (power) "Negative Supply Voltage, Usually 0V or - 5V.", 5 LATCH ENABLE (in) "Latch Enable Input. With a logic high, the output is latched.", 6 GND (power) "Ground Supply Voltage, Usually 0V.", 7 Q (out) "Noninverting Output.", 8 ~{Q} (out) "Inverting Output."

## LT1711IMS8
designator U?
4.5 ns, 3 V / 5 V / + / - 5 V, Rail-to-Rail Comparator, 1 Channel, 2.4 to 12 V or + / - 2.4 to + / - 6 V, -40 to +85 degC, 8-pin Plastic MSOP (MS8); Generic Part Number: LT1711; Manufacturer: Linear Technology; PartNumber: LT1711IMS8; Channels (#): 1; Prop Delay (us): 0.0045; Supply Current (uA) Typical: 10000; Vos (mV) Guaranteed: 5; Vos (mV) Typical: 0.5; Vs Max (V): 12; Vs Min (V): 2.4; PackageReference: MS8; PackageDescription: 8-Pin Plastic MSOP, Body 3 x 3 mm, Pitch 0.65 mm; Supplier 1: Digi-Key; Supplier Part Number 1: LT1711IMS8-ND; Supplier 2: Newark; Supplier Part Number 2: 57M5754; Features: Comparator, Rail-to-Rail In/Out, Output Latch; RoHS: N; Supply Voltage Range: 2.4 to 12 V or + / -2.4 to + / -6 V; Mounting Technology: Surface Mount; ComponentLink1Description: Manufacturer URL; ComponentLink1URL: http://www.linear.com/; ComponentLink2Description: Datasheet; ComponentLink2URL: http://cds.linear.com/docs/en/datasheet/171112f.pdf; ComponentLink3Description: Package Specification; ComponentLink3URL: http://cds.linear.com/docs/en/packaging/MSOP_8_05-08-1660.pdf
footprint LT-MS8_N (SOP, 8-Leads, Body 3x3mm, Pitch 0.65mm, IPC Medium Density)
footprint LT-MS8_L (SOP, 8-Leads, Body 3x3mm, Pitch 0.65mm, IPC High Density)
footprint LT-MS8_M (SOP, 8-Leads, Body 3x3mm, Pitch 0.65mm, IPC Low Density)
pins: 1 V+ (power) "Positive Supply Voltage, Usually 5V.", 2 +IN (in) "Noninverting Input.", 3 -IN (in) "Inverting Input.", 4 V- (power) "Negative Supply Voltage, Usually 0V or - 5V.", 5 LATCH ENABLE (in) "Latch Enable Input. With a logic high, the output is latched.", 6 GND (power) "Ground Supply Voltage, Usually 0V.", 7 Q (out) "Noninverting Output.", 8 ~{Q} (out) "Inverting Output."

## LT1711IMS8#PBF
designator U?
4.5 ns, 3 V / 5 V / + / - 5 V, Rail-to-Rail Comparator, 1 Channel, 2.4 to 12 V or + / - 2.4 to + / - 6 V, -40 to + 85 degC, 8-pin Plastic MSOP (MS8); Generic Part Number: LT1711; Manufacturer: Linear Technology; PartNumber: LT1711IMS8#PBF; Channels (#): 1; Prop Delay (us): 0.0045; Supply Current (uA) Typical: 10000; Vos (mV) Guaranteed: 5; Vos (mV) Typical: 0.5; Vs Max (V): 12; Vs Min (V): 2.4; PackageReference: MS8; PackageDescription: 8-Pin Plastic MSOP, Body 3 x 3 mm, Pitch 0.65 mm; Supplier 1: Digi-Key; Supplier Part Number 1: LT1711IMS8#PBF-ND; Supplier 2: Farnell; Supplier Part Number 2: 2254822; Supplier 3: Newark; Supplier Part Number 3: 57M5755; Features: Comparator, Rail-to-Rail In/Out, Output Latch; RoHS: Y; Supply Voltage Range: 2.4 to 12 V or + / -2.4 to + / -6 V; Mounting Technology: Surface Mount; ComponentLink1Description: Manufacturer URL; ComponentLink1URL: http://www.linear.com/; ComponentLink2Description: Datasheet; ComponentLink2URL: http://cds.linear.com/docs/en/datasheet/171112f.pdf; ComponentLink3Description: Package Specification; ComponentLink3URL: http://cds.linear.com/docs/en/packaging/MSOP_8_05-08-1660.pdf
footprint LT-MS8_N (SOP, 8-Leads, Body 3x3mm, Pitch 0.65mm, IPC Medium Density)
footprint LT-MS8_L (SOP, 8-Leads, Body 3x3mm, Pitch 0.65mm, IPC High Density)
footprint LT-MS8_M (SOP, 8-Leads, Body 3x3mm, Pitch 0.65mm, IPC Low Density)
pins: 1 V+ (power) "Positive Supply Voltage, Usually 5V.", 2 +IN (in) "Noninverting Input.", 3 -IN (in) "Inverting Input.", 4 V- (power) "Negative Supply Voltage, Usually 0V or - 5V.", 5 LATCH ENABLE (in) "Latch Enable Input. With a logic high, the output is latched.", 6 GND (power) "Ground Supply Voltage, Usually 0V.", 7 Q (out) "Noninverting Output.", 8 ~{Q} (out) "Inverting Output."

## LT1711IMS8#TR
designator U?
4.5 ns, 3 V / 5 V / + / - 5 V, Rail-to-Rail Comparator, 1 Channel, 2.4 to 12 V or + / - 2.4 to + / - 6 V, -40 to + 85 degC, 8-pin Plastic MSOP (MS8), Tape and Reel; Generic Part Number: LT1711; Manufacturer: Linear Technology; PartNumber: LT1711IMS8#TR; Channels (#): 1; Prop Delay (us): 0.0045; Supply Current (uA) Typical: 10000; Vos (mV) Guaranteed: 5; Vos (mV) Typical: 0.5; Vs Max (V): 12; Vs Min (V): 2.4; PackageReference: MS8; PackageDescription: 8-Pin Plastic MSOP, Body 3 x 3 mm, Pitch 0.65 mm; Supplier 1: Digi-Key; Supplier Part Number 1: LT1711IMS8TR-ND; Features: Comparator, Rail-to-Rail In/Out, Output Latch; RoHS: N; Supply Voltage Range: 2.4 to 12 V or + / -2.4 to + / -6 V; Mounting Technology: Surface Mount; ComponentLink1Description: Manufacturer URL; ComponentLink1URL: http://www.linear.com/; ComponentLink2Description: Datasheet; ComponentLink2URL: http://cds.linear.com/docs/en/datasheet/171112f.pdf; ComponentLink3Description: Package Specification; ComponentLink3URL: http://cds.linear.com/docs/en/packaging/MSOP_8_05-08-1660.pdf
footprint LT-MS8_N (SOP, 8-Leads, Body 3x3mm, Pitch 0.65mm, IPC Medium Density)
footprint LT-MS8_L (SOP, 8-Leads, Body 3x3mm, Pitch 0.65mm, IPC High Density)
footprint LT-MS8_M (SOP, 8-Leads, Body 3x3mm, Pitch 0.65mm, IPC Low Density)
pins: 1 V+ (power) "Positive Supply Voltage, Usually 5V.", 2 +IN (in) "Noninverting Input.", 3 -IN (in) "Inverting Input.", 4 V- (power) "Negative Supply Voltage, Usually 0V or - 5V.", 5 LATCH ENABLE (in) "Latch Enable Input. With a logic high, the output is latched.", 6 GND (power) "Ground Supply Voltage, Usually 0V.", 7 Q (out) "Noninverting Output.", 8 ~{Q} (out) "Inverting Output."

## LT1711IMS8#TRPBF
designator U?
4.5 ns, 3 V / 5 V / + / - 5 V, Rail-to-Rail Comparator, 1 Channel, 2.4 to 12 V or + / - 2.4 to + / - 6 V, -40 to + 85 degC, 8-pin Plastic MSOP (MS8), Tape and Reel; Generic Part Number: LT1711; Manufacturer: Linear Technology; PartNumber: LT1711IMS8#TRPBF; Channels (#): 1; Prop Delay (us): 0.0045; Supply Current (uA) Typical: 10000; Vos (mV) Guaranteed: 5; Vos (mV) Typical: 0.5; Vs Max (V): 12; Vs Min (V): 2.4; PackageReference: MS8; PackageDescription: 8-Pin Plastic MSOP, Body 3 x 3 mm, Pitch 0.65 mm; Supplier 1: Digi-Key; Supplier Part Number 1: LT1711IMS8#TRPBF-ND; Features: Comparator, Rail-to-Rail In/Out, Output Latch; RoHS: Y; Supply Voltage Range: 2.4 to 12 V or + / -2.4 to + / -6 V; Mounting Technology: Surface Mount; ComponentLink1Description: Manufacturer URL; ComponentLink1URL: http://www.linear.com/; ComponentLink2Description: Datasheet; ComponentLink2URL: http://cds.linear.com/docs/en/datasheet/171112f.pdf; ComponentLink3Description: Package Specification; ComponentLink3URL: http://cds.linear.com/docs/en/packaging/MSOP_8_05-08-1660.pdf
footprint LT-MS8_N (SOP, 8-Leads, Body 3x3mm, Pitch 0.65mm, IPC Medium Density)
footprint LT-MS8_L (SOP, 8-Leads, Body 3x3mm, Pitch 0.65mm, IPC High Density)
footprint LT-MS8_M (SOP, 8-Leads, Body 3x3mm, Pitch 0.65mm, IPC Low Density)
pins: 1 V+ (power) "Positive Supply Voltage, Usually 5V.", 2 +IN (in) "Noninverting Input.", 3 -IN (in) "Inverting Input.", 4 V- (power) "Negative Supply Voltage, Usually 0V or - 5V.", 5 LATCH ENABLE (in) "Latch Enable Input. With a logic high, the output is latched.", 6 GND (power) "Ground Supply Voltage, Usually 0V.", 7 Q (out) "Noninverting Output.", 8 ~{Q} (out) "Inverting Output."

## LT1712CGN
designator U?
4.5ns, 3 V / 5 V / + / - 5 V, Rail-to-Rail Comparator, 2 Channels, 2.4 to 12 V or + / - 2.4 to + / - 6 V, 0 to +70 degC, 16-pin Plastic SSOP (GN16); Generic Part Number: LT1712; Manufacturer: Linear Technology; PartNumber: LT1712CGN; Channels (#): 2; Prop Delay (us): 0.0045; Supply Current (uA) Typical: 10000; Vos (mV) Guaranteed: 5; Vos (mV) Typical: 0.5; Vs Max (V): 12; Vs Min (V): 2.4; PackageReference: GN16; PackageDescription: 16-Pin Plastic SSOP, Body 4.89 x 3.9 mm, Pitch 0.635 mm; Supplier 1: Digi-Key; Supplier Part Number 1: LT1712CGN-ND; Features: Comparator, Rail-to-Rail In/Out, Output Latch; RoHS: N; Supply Voltage Range: 2.4 to 12 V or + / -2.4 to + / -6 V; Mounting Technology: Surface Mount; ComponentLink1Description: Manufacturer URL; ComponentLink1URL: http://www.linear.com/; ComponentLink2Description: Datasheet; ComponentLink2URL: http://cds.linear.com/docs/en/datasheet/171112f.pdf; ComponentLink3Description: Package Specification; ComponentLink3URL: http://cds.linear.com/docs/en/packaging/05081641_B_GN16.pdf
footprint LT-GN16_N (SOP, 16-Leads, Body 4.89x3.9mm, Pitch 0.635mm, , IPC Medium Density)
footprint LT-GN16_L (SOP, 16-Leads, Body 4.89x3.9mm, Pitch 0.635mm, , IPC High Density)
footprint LT-GN16_M (SOP, 16-Leads, Body 4.89x3.9mm, Pitch 0.635mm, , IPC Low Density)
pins on every part: 3 V- (power), 4 V+ (power), 5 V+ (power), 6 V- (power)
part A pins: 1 -INA (in), 2 +INA (in), 13 ~{Q}A (out), 14 QA (out), 16 LATCHENABEL A (in)
part B pins: 7 +INB (in), 8 -INB (in), 9 LATCHENABLE B (in), 11 QB (out), 12 ~{Q}B (out)
part C pins: 10 GND (power), 15 GND (power)

## LT1712CGN#PBF
designator U?
4.5ns, 3 V / 5 V / + / - 5 V, Rail-to-Rail Comparator, 2 Channels, 2.4 to 12 V or + / - 2.4 to + / - 6 V, 0 to +70 degC, 16-pin Plastic SSOP (GN16); Generic Part Number: LT1712; Manufacturer: Linear Technology; PartNumber: LT1712CGN#PBF; Channels (#): 2; Prop Delay (us): 0.0045; Supply Current (uA) Typical: 10000; Vos (mV) Guaranteed: 5; Vos (mV) Typical: 0.5; Vs Max (V): 12; Vs Min (V): 2.4; PackageReference: GN16; PackageDescription: 16-Pin Plastic SSOP, Body 4.89 x 3.9 mm, Pitch 0.635 mm; Supplier 1: Digi-Key; Supplier Part Number 1: LT1712CGN#PBF-ND; Supplier 2: Farnell; Supplier Part Number 2: 2254823; Supplier 3: Newark; Supplier Part Number 3: 57M5759; Features: Comparator, Rail-to-Rail In/Out, Output Latch; RoHS: Y; Supply Voltage Range: 2.4 to 12 V or + / -2.4 to + / -6 V; Mounting Technology: Surface Mount; ComponentLink1Description: Manufacturer URL; ComponentLink1URL: http://www.linear.com/; ComponentLink2Description: Datasheet; ComponentLink2URL: http://cds.linear.com/docs/en/datasheet/171112f.pdf; ComponentLink3Description: Package Specification; ComponentLink3URL: http://cds.linear.com/docs/en/packaging/05081641_B_GN16.pdf
footprint LT-GN16_N (SOP, 16-Leads, Body 4.89x3.9mm, Pitch 0.635mm, , IPC Medium Density)
footprint LT-GN16_L (SOP, 16-Leads, Body 4.89x3.9mm, Pitch 0.635mm, , IPC High Density)
footprint LT-GN16_M (SOP, 16-Leads, Body 4.89x3.9mm, Pitch 0.635mm, , IPC Low Density)
pins on every part: 3 V- (power), 4 V+ (power), 5 V+ (power), 6 V- (power)
part A pins: 1 -INA (in), 2 +INA (in), 13 ~{Q}A (out), 14 QA (out), 16 LATCHENABEL A (in)
part B pins: 7 +INB (in), 8 -INB (in), 9 LATCHENABLE B (in), 11 QB (out), 12 ~{Q}B (out)
part C pins: 10 GND (power), 15 GND (power)

## LT1712CGN#TR
designator U?
4.5ns, 3 V / 5 V / + / - 5 V, Rail-to-Rail Comparator, 2 Channels, 2.4 to 12 V or + / - 2.4 to + / - 6 V, 0 to +70 degC, 16-pin Plastic SSOP (GN16), Tape and Reel; Generic Part Number: LT1712; Manufacturer: Linear Technology; PartNumber: LT1712CGN#TR; Channels (#): 2; Prop Delay (us): 0.0045; Supply Current (uA) Typical: 10000; Vos (mV) Guaranteed: 5; Vos (mV) Typical: 0.5; Vs Max (V): 12; Vs Min (V): 2.4; PackageReference: GN16; PackageDescription: 16-Pin Plastic SSOP, Body 4.89 x 3.9 mm, Pitch 0.635 mm; Supplier 1: Digi-Key; Supplier Part Number 1: LT1712CGN#TR-ND; Features: Comparator, Rail-to-Rail In/Out, Output Latch; RoHS: N; Supply Voltage Range: 2.4 to 12 V or + / -2.4 to + / -6 V; Mounting Technology: Surface Mount; ComponentLink1Description: Manufacturer URL; ComponentLink1URL: http://www.linear.com/; ComponentLink2Description: Datasheet; ComponentLink2URL: http://cds.linear.com/docs/en/datasheet/171112f.pdf; ComponentLink3Description: Package Specification; ComponentLink3URL: http://cds.linear.com/docs/en/packaging/05081641_B_GN16.pdf
footprint LT-GN16_N (SOP, 16-Leads, Body 4.89x3.9mm, Pitch 0.635mm, , IPC Medium Density)
footprint LT-GN16_L (SOP, 16-Leads, Body 4.89x3.9mm, Pitch 0.635mm, , IPC High Density)
footprint LT-GN16_M (SOP, 16-Leads, Body 4.89x3.9mm, Pitch 0.635mm, , IPC Low Density)
pins on every part: 3 V- (power), 4 V+ (power), 5 V+ (power), 6 V- (power)
part A pins: 1 -INA (in), 2 +INA (in), 13 ~{Q}A (out), 14 QA (out), 16 LATCHENABEL A (in)
part B pins: 7 +INB (in), 8 -INB (in), 9 LATCHENABLE B (in), 11 QB (out), 12 ~{Q}B (out)
part C pins: 10 GND (power), 15 GND (power)

## LT1712CGN#TRPBF
designator U?
4.5ns, 3 V / 5 V / + / - 5 V, Rail-to-Rail Comparator, 2 Channels, 2.4 to 12 V or + / - 2.4 to + / - 6 V, 0 to +70 degC, 16-pin Plastic SSOP (GN16), Tape and Reel; Generic Part Number: LT1712; Manufacturer: Linear Technology; PartNumber: LT1712CGN#TRPBF; Channels (#): 2; Prop Delay (us): 0.0045; Supply Current (uA) Typical: 10000; Vos (mV) Guaranteed: 5; Vos (mV) Typical: 0.5; Vs Max (V): 12; Vs Min (V): 2.4; PackageReference: GN16; PackageDescription: 16-Pin Plastic SSOP, Body 4.89 x 3.9 mm, Pitch 0.635 mm; Supplier 1: Digi-Key; Supplier Part Number 1: LT1712CGN#TRPBF-ND; Features: Comparator, Rail-to-Rail In/Out, Output Latch; RoHS: Y; Supply Voltage Range: 2.4 to 12 V or + / -2.4 to + / -6 V; Mounting Technology: Surface Mount; ComponentLink1Description: Manufacturer URL; ComponentLink1URL: http://www.linear.com/; ComponentLink2Description: Datasheet; ComponentLink2URL: http://cds.linear.com/docs/en/datasheet/171112f.pdf; ComponentLink3Description: Package Specification; ComponentLink3URL: http://cds.linear.com/docs/en/packaging/05081641_B_GN16.pdf
footprint LT-GN16_N (SOP, 16-Leads, Body 4.89x3.9mm, Pitch 0.635mm, , IPC Medium Density)
footprint LT-GN16_L (SOP, 16-Leads, Body 4.89x3.9mm, Pitch 0.635mm, , IPC High Density)
footprint LT-GN16_M (SOP, 16-Leads, Body 4.89x3.9mm, Pitch 0.635mm, , IPC Low Density)
pins on every part: 3 V- (power), 4 V+ (power), 5 V+ (power), 6 V- (power)
part A pins: 1 -INA (in), 2 +INA (in), 13 ~{Q}A (out), 14 QA (out), 16 LATCHENABEL A (in)
part B pins: 7 +INB (in), 8 -INB (in), 9 LATCHENABLE B (in), 11 QB (out), 12 ~{Q}B (out)
part C pins: 10 GND (power), 15 GND (power)